# Altium integrated library SCD30.IntLib: 1 symbol
Pins are listed as number, name and electrical type; pins without a type are passive.

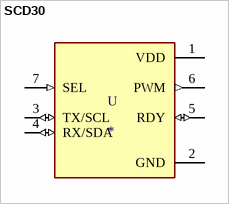
[diagram p0: symbol SCD30]

## SCD30
designator U
Carbon Dioxide _CO2_ Sensor IÂ²C, Modbus, PWM; MF: Sensirion AG; MP: SCD30; Package: None; Value: *; Availability: Unavailable; SnapEDA_Link: https://www.snapeda.com/parts/SCD30/Sensirion%20AG/view-part/2779194/?ref=snap; Price: None
footprint MODULE_SCD30
pins: 1 VDD (power), 2 GND (power), 3 TX/SCL (io), 4 RX/SDA (io), 5 RDY (io), 6 PWM (out), 7 SEL (in)